# EAGLE library part 760875142 (library Wurth Electronics Midcom Inc V1-0)
Package Style: Standard EPT18 Mounting: SMD Pins: 8 pins Bobbin: 070-5734 Windings Primary: 280 - 380VDC, 85kHz Aux: 19.0VDC, 20mADC Secondary: 25.4V, 0.75A Best pinouts for production vary per application. Please contact Wurth Electronics Midcom, Inc. for assistance with your custom design. Datasheet: 760875142 <http://www.we-online.com/web/en/index.php/show/media/06_passive_components_-_custom_magnetics/pdf_doc_files/spec_sheets/7608/760875142.pdf> Website: Wurth Electronics Midcom <http://www.we-online.com/midcom> Contact us Wurth Electronics Midcom, Inc. 121 Airport Dr. Watertown, SD 57201 Phone: (605) 886-4385 Fax: (605) 886-4486 E-Mail: midcom@we-online.com
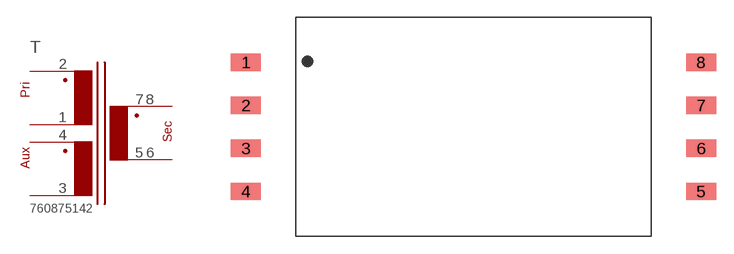
[diagram p133: symbol with the pads of 01STANDARD_EPT18_SMD_8PIN; footprint 01STANDARD_EPT18_SMD_8PIN]

Designator prefix T

## 760875142  [01STANDARD_EPT18_SMD_8PIN]
1  2  pas
2  1  pas
3  4  pas
4  3  pas
5  6  pas
6  8  pas
7  5  pas
8  7  pas

## Footprint 01STANDARD_EPT18_SMD_8PIN (pad centres in mm)
Package Style: Speedy ETP18 Mounting: SMD Pins: 8 pins Bobbin: 070-5733
smd 2.603 x 1.499: 1 -19.704,5.601; 2 -19.704,1.867; 3 -19.704,-1.867; 4 -19.704,-5.601; 5 19.704,-5.601; 6 19.704,-1.867; 7 19.704,1.867; 8 19.704,5.601